# EAGLE library part ADXL377 (library Accelerometer)
ADXL377 - Small, Low Power, 3 - Axis ±200 g Accelerometer
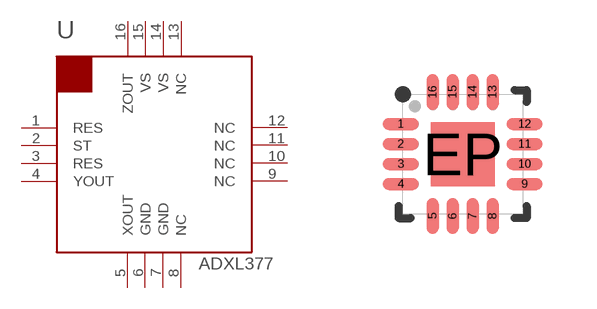
[diagram p3: symbol with the pads of 16-LFQFN; footprint 16-LFQFN]

Designator prefix U

## ADXL377BCPZ  [16-LFQFN]
1  RES
2  ST
3  RES
4  YOUT  out
5  XOUT  out
6  GND  pwr
7  GND  pwr
8  NC  nc
9  NC  nc
10  NC  nc
11  NC  nc
12  NC  nc
13  NC  nc
14  VS  pwr
15  VS  pwr
16  ZOUT  out

## Footprint 16-LFQFN (pad centres in mm)
Changes: 120714 - Removed checkerboard from solder mask and cream layers. CN>br>
smd 0.9 x 0.3: 1 -1.55,0.75; 2 -1.55,0.25; 3 -1.55,-0.25; 4 -1.55,-0.75; 9 1.55,-0.75; 10 1.55,-0.25; 11 1.55,0.25; 12 1.55,0.75
smd 0.3 x 0.9: 5 -0.75,-1.55; 6 -0.25,-1.55; 7 0.25,-1.55; 8 0.75,-1.55; 13 0.75,1.55; 14 0.25,1.55; 15 -0.25,1.55; 16 -0.75,1.55
smd 1.6 x 1.6: EP 0,0